# EAGLE library part GY-521 (library MPU6050)
GY-521 PIM for MPU6050 Check availability <https://pricing.snapeda.com/parts/GY-521/GODREAM%20FORDREAM%20CO.%2C%20LIMITED/view-part?ref=eda>
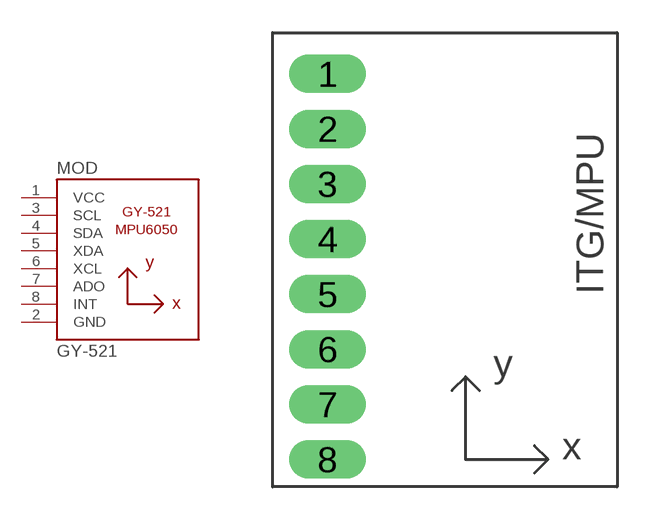
[diagram p0: symbol with the pads of GY-521; footprint GY-521]

Designator prefix MOD

## GY-521MPU6050 (AVAILABILITY: Not in stock; DESCRIPTION: Triple Axis Accelerometer Gyro Breakout; MF: GODREAM FORDREAM CO., LIMITED; MP: GY-521; PACKAGE: Package; PRICE: None)  [GY-521]
1  VCC  pwr
2  GND  pwr
3  SCL  out
4  SDA
5  XDA
6  XCL
7  ADO  in
8  INT  out

## Footprint GY-521 (pad centres in mm)
drill 0.8 pad 1.778 long: 1 -8.89,8.89; 2 -8.89,6.35; 3 -8.89,3.81; 4 -8.89,1.27; 5 -8.89,-1.27; 6 -8.89,-3.81; 7 -8.89,-6.35; 8 -8.89,-8.89